# Altium footprint library MAX17048G.PCBLIB: 3 footprints
Each footprint in its own frame and in the unit in brackets; x right, y up, seen from the top. Pads: shape width x height; smd on the part's side, far side on the other; paste and mask are expansions set on the pad; w line width, h text height; cw(c..) or ccw(c..) is an arc to the next point about the centre after c.
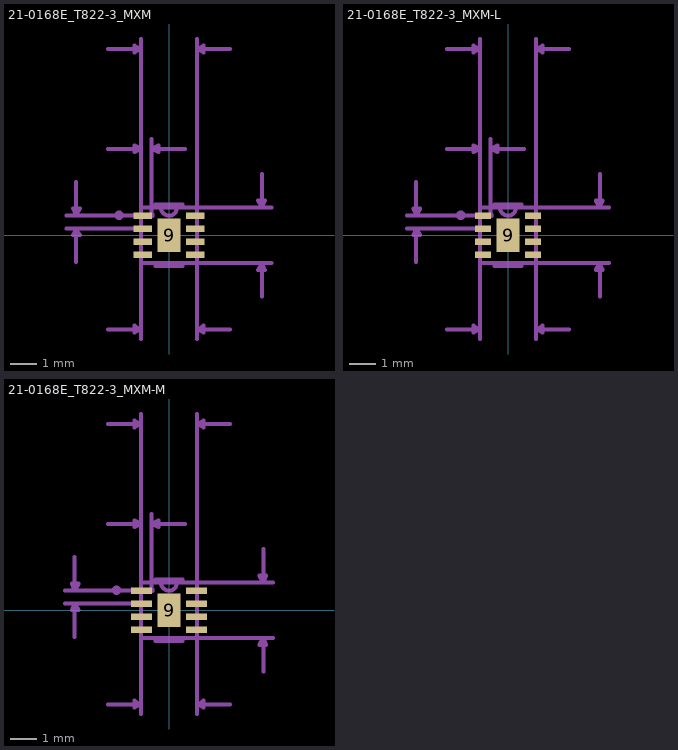
[diagram p0: the footprints below, top view; thin cyan lines are the x and y axes]

## 21-0168E_T822-3_MXM [mil]
pads (9):
  rect 28x10 smd: 1(-39.5,29.53) 2(-39.5,9.84) 3(-39.5,-9.84) 4(-39.5,-29.53) 5(39.5,-29.53) 6(39.5,-9.84) 7(39.5,9.84) 8(39.5,29.53)
  rect 35x51 smd: 9(0,0)
tDocu:
  lines w0: -28,30 ccw(c-25,30) -22,30 ccw(c-25,30) -28,30
  lines w6: -12,41 ccw(c0,41.5) 12,42 ; 12,42 42,42 42,-42 -42,-42 -42,42 12,42
tPlace:
  lines w6: -20,-46 20,-46 ; -20,46 20,46 ; -79,30 ccw(c-75,30) -71,30 ccw(c-75,30) -79,30
Document:
  lines w6: -154,10 -140,10 ; -154,30 -140,30 ; -140,-40 -140,10 ; -140,80 -140,30 ; -92,-142 -42,-142 ; -92,130 -42,130 ; -92,280 -42,280 ; -42,-156 -42,-142 ; -42,-42 -42,-142 ; -42,30 -42,130 ; -42,295 -42,280 ; -40,10 -140,10 ; -40,30 -140,30 ; -26,30 -26,130 ; -26,145 -26,130 ; 24,130 -26,130 ; 42,-156 42,-142 ; 42,30 42,42 ; 42,295 42,280 ; 92,-142 42,-142 ; 92,280 42,280 ; 140,-92 140,-42 ; 140,92 140,42 ; 154,-42 140,-42 ; 154,42 140,42 ; -140,10 -144,0 -134,0 -140,10 ; -140,30 -144,40 -134,40 -140,30 ; -42,-142 -52,-136 -52,-146 -42,-142 ; -42,130 -42,280 ; -42,130 -52,135 -52,125 -42,130 ; -42,280 -52,285 -52,275 -42,280 ; -26,130 -16,135 -16,125 -26,130 ; 42,-142 42,-42 140,-42 ; 42,-142 52,-136 52,-146 42,-142 ; 42,42 42,280 ; 42,42 140,42 ; 42,280 52,285 52,275 42,280 ; 140,-42 134,-52 144,-52 140,-42 ; 140,42 134,52 144,52 140,42
  text "Default Padstyle: RX28Y10D0T" at -599,-412 h77.5
  text "Heat Tab Padstyle: RX35Y51D0T" at -636,-472 h77.5
  text "Alt 1 Padstyle: OX60Y90D30P" at -583,-592 h77.5
  text "Alt 2 Padstyle: OX90Y60D30P" at -583,-652 h77.5
  text "0.083in/2.108mm" at -159,300 h38.75
  text "0.016in/0.406mm" at -193,150 h38.75
  text "0.02in/0.5mm" at -410,7 h38.75
  text "0.083in/2.108mm" at 160,-12 h38.75
  text "0.083in/2.108mm" at -159,-186 h38.75

## 21-0168E_T822-3_MXM-L [mil]
pads (9):
  rect 24x10 smd: 1(-37.5,29.53) 2(-37.5,9.84) 3(-37.5,-9.84) 4(-37.5,-29.53) 5(37.5,-29.53) 6(37.5,-9.84) 7(37.5,9.84) 8(37.5,29.53)
  rect 35x51 smd: 9(0,0)
tDocu:
  lines w0: -28,30 ccw(c-25,30) -22,30 ccw(c-25,30) -28,30
  lines w6: -12,41 ccw(c0,41.5) 12,42 ; 12,42 42,42 42,-42 -42,-42 -42,42 12,42
tPlace:
  lines w6: -20,-46 20,-46 ; -20,46 20,46 ; -75,30 ccw(c-71,30) -67,30 ccw(c-71,30) -75,30
Document:
  lines w6: -152,10 -138,10 ; -152,30 -138,30 ; -138,-40 -138,10 ; -138,80 -138,30 ; -92,-142 -42,-142 ; -92,130 -42,130 ; -92,280 -42,280 ; -42,-156 -42,-142 ; -42,-42 -42,-142 ; -42,30 -42,130 ; -42,295 -42,280 ; -38,10 -138,10 ; -38,30 -138,30 ; -26,30 -26,130 ; -26,145 -26,130 ; 24,130 -26,130 ; 42,-156 42,-142 ; 42,30 42,42 ; 42,295 42,280 ; 92,-142 42,-142 ; 92,280 42,280 ; 138,-92 138,-42 ; 138,92 138,42 ; 152,-42 138,-42 ; 152,42 138,42 ; -138,10 -142,0 -132,0 -138,10 ; -138,30 -142,40 -132,40 -138,30 ; -42,-142 -52,-136 -52,-146 -42,-142 ; -42,130 -42,280 ; -42,130 -52,135 -52,125 -42,130 ; -42,280 -52,285 -52,275 -42,280 ; -26,130 -16,135 -16,125 -26,130 ; 42,-142 42,-42 138,-42 ; 42,-142 52,-136 52,-146 42,-142 ; 42,42 42,280 ; 42,42 138,42 ; 42,280 52,285 52,275 42,280 ; 138,-42 132,-52 142,-52 138,-42 ; 138,42 132,52 142,52 138,42
  text "Default Padstyle: RX24Y10D0T" at -599,-412 h77.5
  text "Heat Tab Padstyle: RX35Y51D0T" at -636,-472 h77.5
  text "Alt 1 Padstyle: OX60Y90D30P" at -583,-592 h77.5
  text "Alt 2 Padstyle: OX90Y60D30P" at -583,-652 h77.5
  text "0.083in/2.108mm" at -159,300 h38.75
  text "0.016in/0.406mm" at -193,150 h38.75
  text "0.02in/0.5mm" at -408,7 h38.75
  text "0.083in/2.108mm" at 158,-12 h38.75
  text "0.083in/2.108mm" at -159,-186 h38.75

## 21-0168E_T822-3_MXM-M [mil]
pads (9):
  rect 32x10 smd: 1(-41.5,29.53) 2(-41.5,9.84) 3(-41.5,-9.84) 4(-41.5,-29.53) 5(41.5,-29.53) 6(41.5,-9.84) 7(41.5,9.84) 8(41.5,29.53)
  rect 35x51 smd: 9(0,0)
tDocu:
  lines w0: -28,30 ccw(c-25,30) -22,30 ccw(c-25,30) -28,30
  lines w6: -12,41 ccw(c0,41.5) 12,42 ; 12,42 42,42 42,-42 -42,-42 -42,42 12,42
tPlace:
  lines w6: -20,-46 20,-46 ; -20,46 20,46 ; -83,30 ccw(c-79,30) -75,30 ccw(c-79,30) -83,30
Document:
  lines w6: -156,10 -142,10 ; -156,30 -142,30 ; -142,-40 -142,10 ; -142,80 -142,30 ; -92,-142 -42,-142 ; -92,130 -42,130 ; -92,280 -42,280 ; -42,-156 -42,-142 ; -42,-42 -42,-142 ; -42,10 -142,10 ; -42,295 -42,280 ; -26,30 -26,130 ; -26,145 -26,130 ; 24,130 -26,130 ; 42,-156 42,-142 ; 42,30 42,42 ; 42,295 42,280 ; 92,-142 42,-142 ; 92,280 42,280 ; 142,-92 142,-42 ; 142,92 142,42 ; 156,-42 142,-42 ; 156,42 142,42 ; -142,10 -146,0 -136,0 -142,10 ; -142,30 -42,30 -42,130 ; -142,30 -146,40 -136,40 -142,30 ; -42,-142 -52,-136 -52,-146 -42,-142 ; -42,130 -42,280 ; -42,130 -52,135 -52,125 -42,130 ; -42,280 -52,285 -52,275 -42,280 ; -26,130 -16,135 -16,125 -26,130 ; 42,-142 42,-42 142,-42 ; 42,-142 52,-136 52,-146 42,-142 ; 42,42 42,280 ; 42,42 142,42 ; 42,280 52,285 52,275 42,280 ; 142,-42 136,-52 146,-52 142,-42 ; 142,42 136,52 146,52 142,42
  text "Default Padstyle: RX32Y10D0T" at -599,-412 h77.5
  text "Heat Tab Padstyle: RX35Y51D0T" at -636,-472 h77.5
  text "Alt 1 Padstyle: OX60Y90D30P" at -583,-592 h77.5
  text "Alt 2 Padstyle: OX90Y60D30P" at -583,-652 h77.5
  text "0.083in/2.108mm" at -159,300 h38.75
  text "0.016in/0.406mm" at -193,150 h38.75
  text "0.02in/0.5mm" at -412,7 h38.75
  text "0.083in/2.108mm" at 162,-12 h38.75
  text "0.083in/2.108mm" at -159,-186 h38.75